# Altium schematic symbol library kmilo17pet-LT_OpAmp_LT1000.SchLib: 2280 symbols (part 70 of 79)
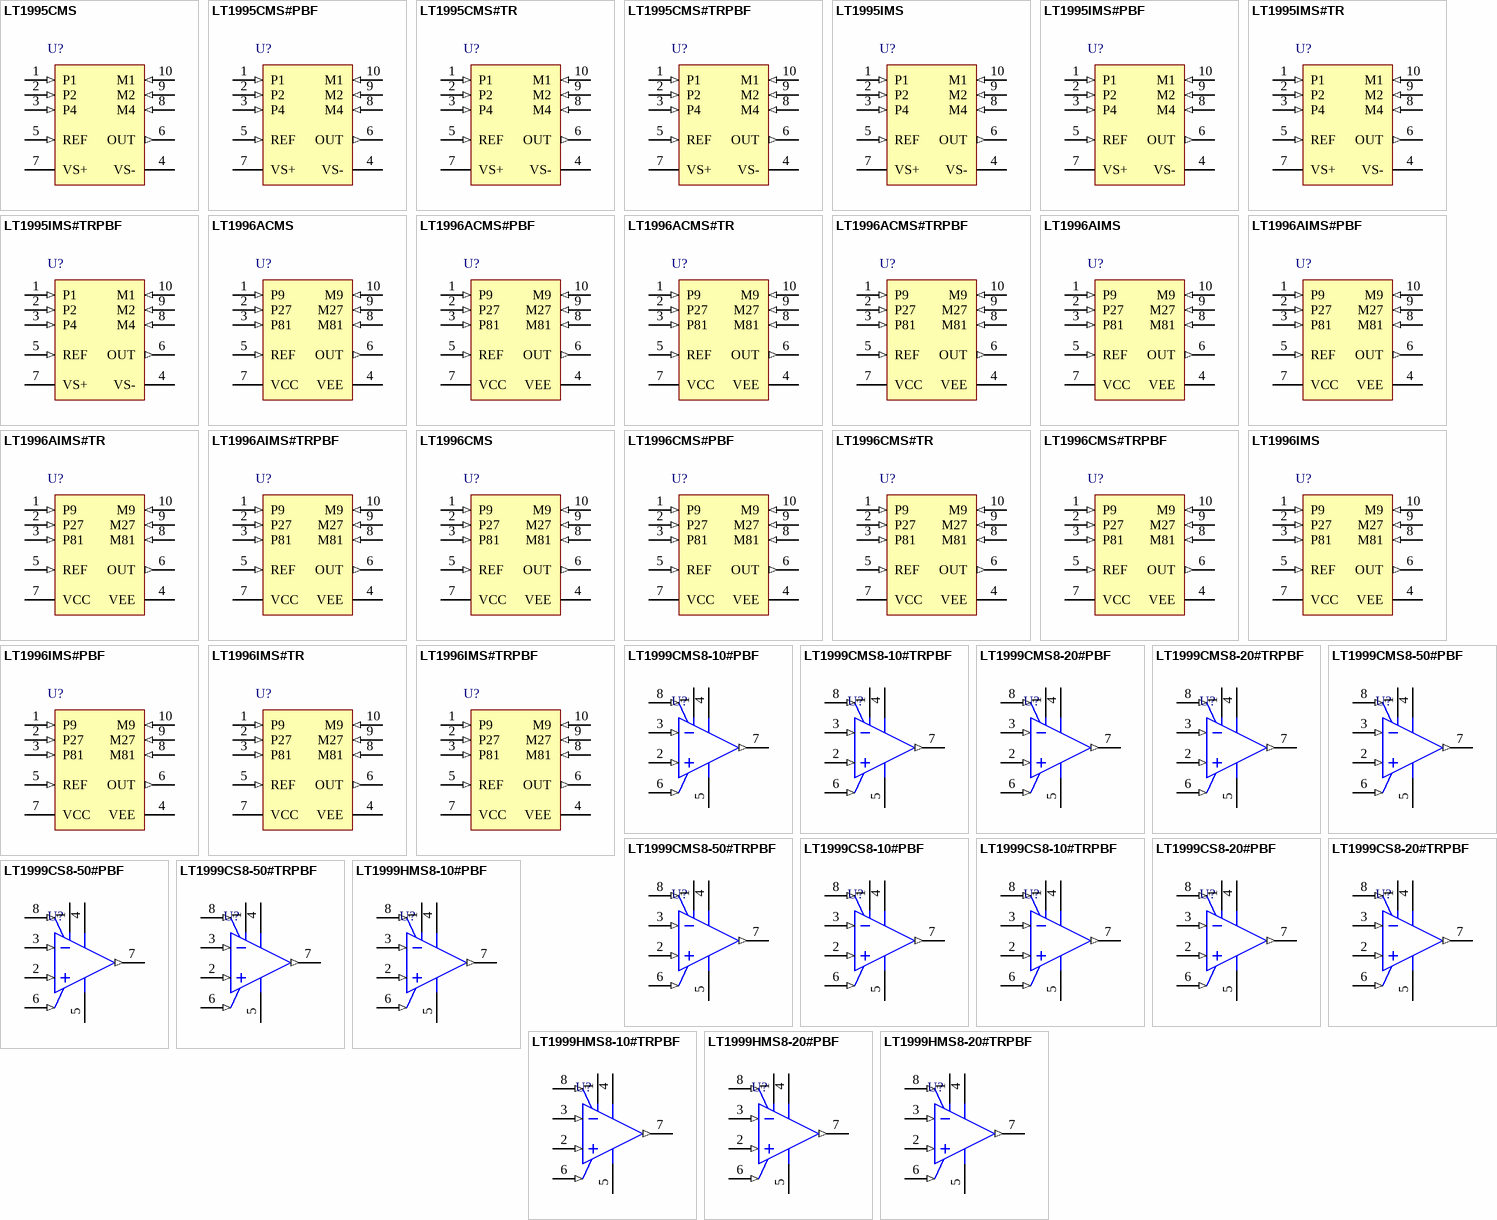
[diagram p174: symbols LT1995CMS to LT1999HMS8-20#TRPBF]

## LT1996IMS#PBF
designator U?
Single Channel, Precision, Gain Selectable Amplifier, Av = 9 to 117, 0.56 MHz Typical GBW, 0.12 V/us Typical SR, 2.7 to 36 V, 10-Pin SOP (MS-10), Industrial, Pb-Free; Linear Technology Part Number: LT1996; Manufacturer: Linear Technology; PartNumber: LT1996IMS#PBF; Channels (#): 1; GBW (MHz) Typical: 0.56; Is (mA) Typical: 0.1; SR (V/us) Typical: 0.12; Vos (mV) Guaranteed: 0.05; Vos (mV) Typical: 0.015; Vs Max (V): 36; Vs Min (V): 2.7; PackageVersion: Rev E; PackageReference: LT-MS-10; PackageDescription: 10-Lead Plastic MSOP, Body 3 x 3 mm, Pitch 0.5 mm; Supplier 1: Digi-Key; Supplier Part Number 1: LT1996IMS#PBF-ND; RoHS: Pb-Free; Type: SGA; Mounting Technology: Surface Mount; ComponentLink1Description: Manufacturer URL; ComponentLink1URL: http://www.linear.com/; ComponentLink2Description: Datasheet; ComponentLink2URL: http://cds.linear.com/docs/en/datasheet/1996f.pdf; ComponentLink3Description: Package Specification; ComponentLink3URL: http://cds.linear.com/docs/en/packaging/MSOP_10_05-08-1661.pdf
footprint LT-MS-10_N (SOP, 10-Leads, Body 3x3mm, Pitch 0.50mm, IPC Medium Density)
footprint LT-MS-10_L (SOP, 10-Leads, Body 3x3mm, Pitch 0.50mm, IPC High Density)
footprint LT-MS-10_M (SOP, 10-Leads, Body 3x3mm, Pitch 0.50mm, IPC Low Density)
pins: 1 P9 (in) "Noninverting Gain-of-9 input. Connects a 50k internal resistor to the op amp’s noninverting input.", 2 P27 (in) "Noninverting Gain-of-27 input. Connects a (50k/3) internal resistor to the op amp’s noninverting input.", 3 P81 (in) "Noninverting Gain-of-81 input. Connects a (50k/9) internal resistor to the op amp’s noninverting input.", 4 VEE (power) "Negative Power Supply. Can be either ground (in single supply applications), or a negative voltage (in split supply applications).", 5 REF (in) "Reference Input. Sets the output level when difference between inputs is zero. Connects a 450k internal resistor to the op amp’s noninverting input.", 6 OUT (out) "Output. VOUT = VREF + 9 * (VP1 - VM1) + 27 *(VP3 - VM3) + 81 * (VP9 - VM9).", 7 VCC (power) "Positive Power Supply. Can be anything from 2.7V to 36V above the VEE voltage.", 8 M81 (in) "Inverting Gain-of-81 input. Connects a (50k/9) internal resistor to the op amp’s inverting input.", 9 M27 (in) "Inverting Gain-of-27 input. Connects a (50k/3) internal resistor to the op amp’s inverting input.", 10 M9 (in) "Inverting Gain-of-9 input. Connects a 50k internal resistor to the op amp’s inverting input."

## LT1996IMS#TR
designator U?
Single Channel, Precision, Gain Selectable Amplifier, Av = 9 to 117, 0.56 MHz Typical GBW, 0.12 V/us Typical SR, 2.7 to 36 V, 10-Pin SOP (MS-10), Industrial, Reel; Linear Technology Part Number: LT1996; Manufacturer: Linear Technology; PartNumber: LT1996IMS#TR; Channels (#): 1; GBW (MHz) Typical: 0.56; Is (mA) Typical: 0.1; SR (V/us) Typical: 0.12; Vos (mV) Guaranteed: 0.05; Vos (mV) Typical: 0.015; Vs Max (V): 36; Vs Min (V): 2.7; PackageVersion: Rev E; PackageReference: LT-MS-10; PackageDescription: 10-Lead Plastic MSOP, Body 3 x 3 mm, Pitch 0.5 mm; Packing: Reel; Type: SGA; Mounting Technology: Surface Mount; ComponentLink1Description: Manufacturer URL; ComponentLink1URL: http://www.linear.com/; ComponentLink2Description: Datasheet; ComponentLink2URL: http://cds.linear.com/docs/en/datasheet/1996f.pdf; ComponentLink3Description: Package Specification; ComponentLink3URL: http://cds.linear.com/docs/en/packaging/MSOP_10_05-08-1661.pdf
footprint LT-MS-10_N (SOP, 10-Leads, Body 3x3mm, Pitch 0.50mm, IPC Medium Density)
footprint LT-MS-10_L (SOP, 10-Leads, Body 3x3mm, Pitch 0.50mm, IPC High Density)
footprint LT-MS-10_M (SOP, 10-Leads, Body 3x3mm, Pitch 0.50mm, IPC Low Density)
pins: 1 P9 (in) "Noninverting Gain-of-9 input. Connects a 50k internal resistor to the op amp’s noninverting input.", 2 P27 (in) "Noninverting Gain-of-27 input. Connects a (50k/3) internal resistor to the op amp’s noninverting input.", 3 P81 (in) "Noninverting Gain-of-81 input. Connects a (50k/9) internal resistor to the op amp’s noninverting input.", 4 VEE (power) "Negative Power Supply. Can be either ground (in single supply applications), or a negative voltage (in split supply applications).", 5 REF (in) "Reference Input. Sets the output level when difference between inputs is zero. Connects a 450k internal resistor to the op amp’s noninverting input.", 6 OUT (out) "Output. VOUT = VREF + 9 * (VP1 - VM1) + 27 *(VP3 - VM3) + 81 * (VP9 - VM9).", 7 VCC (power) "Positive Power Supply. Can be anything from 2.7V to 36V above the VEE voltage.", 8 M81 (in) "Inverting Gain-of-81 input. Connects a (50k/9) internal resistor to the op amp’s inverting input.", 9 M27 (in) "Inverting Gain-of-27 input. Connects a (50k/3) internal resistor to the op amp’s inverting input.", 10 M9 (in) "Inverting Gain-of-9 input. Connects a 50k internal resistor to the op amp’s inverting input."

## LT1996IMS#TRPBF
designator U?
Single Channel, Precision, Gain Selectable Amplifier, Av = 9 to 117, 0.56 MHz Typical GBW, 0.12 V/us Typical SR, 2.7 to 36 V, 10-Pin SOP (MS-10), Industrial, Pb-Free, Reel; Linear Technology Part Number: LT1996; Manufacturer: Linear Technology; PartNumber: LT1996IMS#TRPBF; Channels (#): 1; GBW (MHz) Typical: 0.56; Is (mA) Typical: 0.1; SR (V/us) Typical: 0.12; Vos (mV) Guaranteed: 0.05; Vos (mV) Typical: 0.015; Vs Max (V): 36; Vs Min (V): 2.7; PackageVersion: Rev E; PackageReference: LT-MS-10; PackageDescription: 10-Lead Plastic MSOP, Body 3 x 3 mm, Pitch 0.5 mm; Supplier 1: Digi-Key; Supplier Part Number 1: LT1996IMS#TRPBF-ND; Packing: Reel; RoHS: Pb-Free; Type: SGA; Mounting Technology: Surface Mount; ComponentLink1Description: Manufacturer URL; ComponentLink1URL: http://www.linear.com/; ComponentLink2Description: Datasheet; ComponentLink2URL: http://cds.linear.com/docs/en/datasheet/1996f.pdf; ComponentLink3Description: Package Specification; ComponentLink3URL: http://cds.linear.com/docs/en/packaging/MSOP_10_05-08-1661.pdf
footprint LT-MS-10_N (SOP, 10-Leads, Body 3x3mm, Pitch 0.50mm, IPC Medium Density)
footprint LT-MS-10_L (SOP, 10-Leads, Body 3x3mm, Pitch 0.50mm, IPC High Density)
footprint LT-MS-10_M (SOP, 10-Leads, Body 3x3mm, Pitch 0.50mm, IPC Low Density)
pins: 1 P9 (in) "Noninverting Gain-of-9 input. Connects a 50k internal resistor to the op amp’s noninverting input.", 2 P27 (in) "Noninverting Gain-of-27 input. Connects a (50k/3) internal resistor to the op amp’s noninverting input.", 3 P81 (in) "Noninverting Gain-of-81 input. Connects a (50k/9) internal resistor to the op amp’s noninverting input.", 4 VEE (power) "Negative Power Supply. Can be either ground (in single supply applications), or a negative voltage (in split supply applications).", 5 REF (in) "Reference Input. Sets the output level when difference between inputs is zero. Connects a 450k internal resistor to the op amp’s noninverting input.", 6 OUT (out) "Output. VOUT = VREF + 9 * (VP1 - VM1) + 27 *(VP3 - VM3) + 81 * (VP9 - VM9).", 7 VCC (power) "Positive Power Supply. Can be anything from 2.7V to 36V above the VEE voltage.", 8 M81 (in) "Inverting Gain-of-81 input. Connects a (50k/9) internal resistor to the op amp’s inverting input.", 9 M27 (in) "Inverting Gain-of-27 input. Connects a (50k/3) internal resistor to the op amp’s inverting input.", 10 M9 (in) "Inverting Gain-of-9 input. Connects a 50k internal resistor to the op amp’s inverting input."

## LT1999CMS8-10#PBF
designator U?
Single Channel, High Voltage, Bidirectional Current Sense Amplifier, 2 MHz Typical GBW, 3 V/us Typical SR, 4.5 to 5.5 V, 8-Pin SOP (MS8-8), Commercial, Pb-Free; Linear Technology Part Number: LT1999-10; Manufacturer: Linear Technology; PartNumber: LT1999CMS8-10#PBF; Channels (#): 1; GBW (MHz) Typical: 2; Is (mA) Typical: 1.55; SR (V/us) Typical: 3; Vos (mV) Typical: 0.5; Vs Max (V): 5.5; Vs Min (V): 4.5; DatasheetVersion: Rev. B; PackageVersion: Rev G; PackageReference: LT-MS8-8; PackageDescription: 8-Lead Plastic Small Outline, Body 3.9 x 4.9 mm, Pitch 1.27 mm; Supplier 1: Digi-Key; Supplier Part Number 1: LT1999CMS8-10#PBF-ND; RoHS: Pb-Free; Type: CSA; Mounting Technology: Surface Mount; ComponentLink1Description: Manufacturer URL; ComponentLink1URL: http://www.linear.com/; ComponentLink2Description: Datasheet; ComponentLink2URL: http://cds.linear.com/docs/en/datasheet/1999fb.pdf; ComponentLink3Description: Package Specification; ComponentLink3URL: http://cds.linear.com/docs/en/packaging/05081610_G_SO8.pdf
footprint LT-MS8-8_N (SOP, 8-Leads, Body 3x3mm, Pitch 0.65mm, IPC Medium Density)
footprint LT-MS8-8_L (SOP, 8-Leads, Body 3x3mm, Pitch 0.65mm, IPC High Density)
footprint LT-MS8-8_M (SOP, 8-Leads, Body 3x3mm, Pitch 0.65mm, IPC Low Density)
pins: 1 V+ (power) "Power Supply Voltage. Pins 1 and 4 are tied internally together. The specified range of operation is 4.5V to 5.5V, but lower supply voltages (down to approximately 4V) is possible although the LT1999 is not tested or (See Datasheet)", 2 +IN (in) "Positive Sense Input Pin.", 3 -IN (in) "Negative Sense Input Pin.", 4 V+ (power) "Power Supply Voltage. Pins 1 and 4 are tied internally together. The specified range of operation is 4.5V to 5.5V, but lower supply voltages (down to approximately 4V) is possible although the LT1999 is not tested or (See Datasheet)", 5 GND (power) "Ground Pin.", 6 REF (in) "Reference Pin Input. The REF pin sets the output common mode level and is set halfway between V+ and GND using a divider made of two 160k resistors. The default open circuit potential of the REF pin is mid-supply.It can be (See Datasheet)", 7 OUT (out) "Voltage Output. VOUT = AV•(VSENSE +/- VOSI),where AV is the gain, and VOSI is the input referred offset voltage. The output amplifier has a low impedance output and is designed to drive up to 200pF capacitive loads directly. (See Datasheet)", 8 ~{SHDN} (in) "Shutdown Pin. When pulled to within 0.5V of GND (Pin 5), will place the LT1999 into low power shutdown. If the pin is left floating, an internal 2uA pullup current source will place the LT1999 into the active (amplifying) (See Datasheet)"

## LT1999CMS8-10#TRPBF
designator U?
Single Channel, High Voltage, Bidirectional Current Sense Amplifier, 2 MHz Typical GBW, 3 V/us Typical SR, 4.5 to 5.5 V, 8-Pin SOP (MS8-8), Commercial, Pb-Free, Reel; Linear Technology Part Number: LT1999-10; Manufacturer: Linear Technology; PartNumber: LT1999CMS8-10#TRPBF; Channels (#): 1; GBW (MHz) Typical: 2; Is (mA) Typical: 1.55; SR (V/us) Typical: 3; Vos (mV) Typical: 0.5; Vs Max (V): 5.5; Vs Min (V): 4.5; DatasheetVersion: Rev. B; PackageVersion: Rev G; PackageReference: LT-MS8-8; PackageDescription: 8-Lead Plastic Small Outline, Body 3.9 x 4.9 mm, Pitch 1.27 mm; Supplier 1: Digi-Key; Supplier Part Number 1: LT1999CMS8-10#TRPBF-ND; Packing: Reel; RoHS: Pb-Free; Type: CSA; Mounting Technology: Surface Mount; ComponentLink1Description: Manufacturer URL; ComponentLink1URL: http://www.linear.com/; ComponentLink2Description: Datasheet; ComponentLink2URL: http://cds.linear.com/docs/en/datasheet/1999fb.pdf; ComponentLink3Description: Package Specification; ComponentLink3URL: http://cds.linear.com/docs/en/packaging/05081610_G_SO8.pdf
footprint LT-MS8-8_N (SOP, 8-Leads, Body 3x3mm, Pitch 0.65mm, IPC Medium Density)
footprint LT-MS8-8_L (SOP, 8-Leads, Body 3x3mm, Pitch 0.65mm, IPC High Density)
footprint LT-MS8-8_M (SOP, 8-Leads, Body 3x3mm, Pitch 0.65mm, IPC Low Density)
pins: 1 V+ (power) "Power Supply Voltage. Pins 1 and 4 are tied internally together. The specified range of operation is 4.5V to 5.5V, but lower supply voltages (down to approximately 4V) is possible although the LT1999 is not tested or (See Datasheet)", 2 +IN (in) "Positive Sense Input Pin.", 3 -IN (in) "Negative Sense Input Pin.", 4 V+ (power) "Power Supply Voltage. Pins 1 and 4 are tied internally together. The specified range of operation is 4.5V to 5.5V, but lower supply voltages (down to approximately 4V) is possible although the LT1999 is not tested or (See Datasheet)", 5 GND (power) "Ground Pin.", 6 REF (in) "Reference Pin Input. The REF pin sets the output common mode level and is set halfway between V+ and GND using a divider made of two 160k resistors. The default open circuit potential of the REF pin is mid-supply.It can be (See Datasheet)", 7 OUT (out) "Voltage Output. VOUT = AV•(VSENSE +/- VOSI),where AV is the gain, and VOSI is the input referred offset voltage. The output amplifier has a low impedance output and is designed to drive up to 200pF capacitive loads directly. (See Datasheet)", 8 ~{SHDN} (in) "Shutdown Pin. When pulled to within 0.5V of GND (Pin 5), will place the LT1999 into low power shutdown. If the pin is left floating, an internal 2uA pullup current source will place the LT1999 into the active (amplifying) (See Datasheet)"

## LT1999CMS8-20#PBF
designator U?
Single Channel, High Voltage, Bidirectional Current Sense Amplifier, 2 MHz Typical GBW, 3 V/us Typical SR, 4.5 to 5.5 V, 8-Pin SOP (MS8-8), Commercial, Pb-Free; Linear Technology Part Number: LT1999-20; Manufacturer: Linear Technology; PartNumber: LT1999CMS8-20#PBF; Channels (#): 1; GBW (MHz) Typical: 2; Is (mA) Typical: 1.55; SR (V/us) Typical: 3; Vos (mV) Typical: 0.5; Vs Max (V): 5.5; Vs Min (V): 4.5; DatasheetVersion: Rev. B; PackageVersion: Rev G; PackageReference: LT-MS8-8; PackageDescription: 8-Lead Plastic Small Outline, Body 3.9 x 4.9 mm, Pitch 1.27 mm; Supplier 1: Digi-Key; Supplier Part Number 1: LT1999CMS8-20#PBF-ND; RoHS: Pb-Free; Type: CSA; Mounting Technology: Surface Mount; ComponentLink1Description: Manufacturer URL; ComponentLink1URL: http://www.linear.com/; ComponentLink2Description: Datasheet; ComponentLink2URL: http://cds.linear.com/docs/en/datasheet/1999fb.pdf; ComponentLink3Description: Package Specification; ComponentLink3URL: http://cds.linear.com/docs/en/packaging/05081610_G_SO8.pdf
footprint LT-MS8-8_N (SOP, 8-Leads, Body 3x3mm, Pitch 0.65mm, IPC Medium Density)
footprint LT-MS8-8_L (SOP, 8-Leads, Body 3x3mm, Pitch 0.65mm, IPC High Density)
footprint LT-MS8-8_M (SOP, 8-Leads, Body 3x3mm, Pitch 0.65mm, IPC Low Density)
pins: 1 V+ (power) "Power Supply Voltage. Pins 1 and 4 are tied internally together. The specified range of operation is 4.5V to 5.5V, but lower supply voltages (down to approximately 4V) is possible although the LT1999 is not tested or (See Datasheet)", 2 +IN (in) "Positive Sense Input Pin.", 3 -IN (in) "Negative Sense Input Pin.", 4 V+ (power) "Power Supply Voltage. Pins 1 and 4 are tied internally together. The specified range of operation is 4.5V to 5.5V, but lower supply voltages (down to approximately 4V) is possible although the LT1999 is not tested or (See Datasheet)", 5 GND (power) "Ground Pin.", 6 REF (in) "Reference Pin Input. The REF pin sets the output common mode level and is set halfway between V+ and GND using a divider made of two 160k resistors. The default open circuit potential of the REF pin is mid-supply. It can be (See Datasheet)", 7 OUT (out) "Voltage Output. VOUT = AV•(VSENSE +/- VOSI), where AV is the gain, and VOSI is the input referred offset voltage. The output amplifier has a low impedance output and is designed to drive up to 200pF capacitive loads directly.(See Datasheet)", 8 ~{SHDN} (in) "Shutdown Pin. When pulled to within 0.5V of GND (Pin 5), will place the LT1999 into low power shutdown. If the pin is left floating, an internal 2uA pullup current source will place the LT1999 into the active (amplifying) (See Datasheet)"

## LT1999CMS8-20#TRPBF
designator U?
Single Channel, High Voltage, Bidirectional Current Sense Amplifier, 2 MHz Typical GBW, 3 V/us Typical SR, 4.5 to 5.5 V, 8-Pin SOP (MS8-8), Commercial, Pb-Free, Reel; Linear Technology Part Number: LT1999-20; Manufacturer: Linear Technology; PartNumber: LT1999CMS8-20#TRPBF; Channels (#): 1; GBW (MHz) Typical: 2; Is (mA) Typical: 1.55; SR (V/us) Typical: 3; Vos (mV) Typical: 0.5; Vs Max (V): 5.5; Vs Min (V): 4.5; DatasheetVersion: Rev. B; PackageVersion: Rev G; PackageReference: LT-MS8-8; PackageDescription: 8-Lead Plastic Small Outline, Body 3.9 x 4.9 mm, Pitch 1.27 mm; Supplier 1: Digi-Key; Supplier Part Number 1: LT1999CMS8-20#TRPBF-ND; Packing: Reel; RoHS: Pb-Free; Type: CSA; Mounting Technology: Surface Mount; ComponentLink1Description: Manufacturer URL; ComponentLink1URL: http://www.linear.com/; ComponentLink2Description: Datasheet; ComponentLink2URL: http://cds.linear.com/docs/en/datasheet/1999fb.pdf; ComponentLink3Description: Package Specification; ComponentLink3URL: http://cds.linear.com/docs/en/packaging/05081610_G_SO8.pdf
footprint LT-MS8-8_N (SOP, 8-Leads, Body 3x3mm, Pitch 0.65mm, IPC Medium Density)
footprint LT-MS8-8_L (SOP, 8-Leads, Body 3x3mm, Pitch 0.65mm, IPC High Density)
footprint LT-MS8-8_M (SOP, 8-Leads, Body 3x3mm, Pitch 0.65mm, IPC Low Density)
pins: 1 V+ (power) "Power Supply Voltage. Pins 1 and 4 are tied internally together. The specified range of operation is 4.5V to 5.5V, but lower supply voltages (down to approximately 4V) is possible although the LT1999 is not tested or (See Datasheet)", 2 +IN (in) "Positive Sense Input Pin.", 3 -IN (in) "Negative Sense Input Pin.", 4 V+ (power) "Power Supply Voltage. Pins 1 and 4 are tied internally together. The specified range of operation is 4.5V to 5.5V, but lower supply voltages (down to approximately 4V) is possible although the LT1999 is not tested or (See Datasheet)", 5 GND (power) "Ground Pin.", 6 REF (in) "Reference Pin Input. The REF pin sets the output common mode level and is set halfway between V+ and GND using a divider made of two 160k resistors. The default open circuit potential of the REF pin is mid-supply. It can be (See Datasheet)", 7 OUT (out) "Voltage Output. VOUT = AV•(VSENSE +/- VOSI), where AV is the gain, and VOSI is the input referred offset voltage. The output amplifier has a low impedance output and is designed to drive up to 200pF capacitive loads directly.(See Datasheet)", 8 ~{SHDN} (in) "Shutdown Pin. When pulled to within 0.5V of GND (Pin 5), will place the LT1999 into low power shutdown. If the pin is left floating, an internal 2uA pullup current source will place the LT1999 into the active (amplifying) (See Datasheet)"

## LT1999CMS8-50#PBF
designator U?
Single Channel, High Voltage, Bidirectional Current Sense Amplifier, 2 MHz Typical GBW, 3 V/us Typical SR, 4.5 to 5.5 V, 8-Pin SOP (MS8-8), Commercial, Pb-Free; Linear Technology Part Number: LT1999-50; Manufacturer: Linear Technology; PartNumber: LT1999CMS8-50#PBF; Channels (#): 1; GBW (MHz) Typical: 2; Is (mA) Typical: 1.55; SR (V/us) Typical: 3; Vos (mV) Typical: 0.5; Vs Max (V): 5.5; Vs Min (V): 4.5; DatasheetVersion: Rev. B; PackageVersion: Rev G; PackageReference: LT-MS8-8; PackageDescription: 8-Lead Plastic Small Outline, Body 3.9 x 4.9 mm, Pitch 1.27 mm; Supplier 1: Digi-Key; Supplier Part Number 1: LT1999CMS8-50#PBF-ND; Supplier 2: Farnell; Supplier Part Number 2: 1868094; RoHS: Pb-Free; Type: CSA; Mounting Technology: Surface Mount; ComponentLink1Description: Manufacturer URL; ComponentLink1URL: http://www.linear.com/; ComponentLink2Description: Datasheet; ComponentLink2URL: http://cds.linear.com/docs/en/datasheet/1999fb.pdf; ComponentLink3Description: Package Specification; ComponentLink3URL: http://cds.linear.com/docs/en/packaging/05081610_G_SO8.pdf
footprint LT-MS8-8_N (SOP, 8-Leads, Body 3x3mm, Pitch 0.65mm, IPC Medium Density)
footprint LT-MS8-8_L (SOP, 8-Leads, Body 3x3mm, Pitch 0.65mm, IPC High Density)
footprint LT-MS8-8_M (SOP, 8-Leads, Body 3x3mm, Pitch 0.65mm, IPC Low Density)
pins: 1 V+ (power) "Power Supply Voltage. Pins 1 and 4 are tied internally together. The specified range of operation is 4.5V to 5.5V, but lower supply voltages (down to approximately 4V) is possible although the LT1999 is not tested or (See Datasheet)", 2 +IN (in) "Positive Sense Input Pin.", 3 -IN (in) "Negative Sense Input Pin.", 4 V+ (power) "Power Supply Voltage. Pins 1 and 4 are tied internally together. The specified range of operation is 4.5V to 5.5V, but lower supply voltages (down to approximately 4V) is possible although the LT1999 is not tested or (See Datasheet)", 5 GND (power) "Ground Pin.", 6 REF (in) "Reference Pin Input. The REF pin sets the output common mode level and is set halfway between V+ and GND using a divider made of two 160k resistors. The default open circuit potential of the REF pin is mid-supply. It can be (See Datasheet)", 7 OUT (out) "Voltage Output. VOUT = AV•(VSENSE +/- VOSI), where AV is the gain, and VOSI is the input referred offset voltage. The output amplifier has a low impedance output and is designed to drive up to 200pF capacitive loads directly.(See Datasheet)", 8 ~{SHDN} (in) "Shutdown Pin. When pulled to within 0.5V of GND (Pin 5), will place the LT1999 into low power shutdown. If the pin is left floating, an internal 2uA pullup current source will place the LT1999 into the active (amplifying) (See Datasheet)"

## LT1999CMS8-50#TRPBF
designator U?
Single Channel, High Voltage, Bidirectional Current Sense Amplifier, 2 MHz Typical GBW, 3 V/us Typical SR, 4.5 to 5.5 V, 8-Pin SOP (MS8-8), Commercial, Pb-Free, Reel; Linear Technology Part Number: LT1999-50; Manufacturer: Linear Technology; PartNumber: LT1999CMS8-50#TRPBF; Channels (#): 1; GBW (MHz) Typical: 2; Is (mA) Typical: 1.55; SR (V/us) Typical: 3; Vos (mV) Typical: 0.5; Vs Max (V): 5.5; Vs Min (V): 4.5; DatasheetVersion: Rev. B; PackageVersion: Rev G; PackageReference: LT-MS8-8; PackageDescription: 8-Lead Plastic Small Outline, Body 3.9 x 4.9 mm, Pitch 1.27 mm; Supplier 1: Digi-Key; Supplier Part Number 1: LT1999CMS8-50#TRPBF-ND; Packing: Reel; RoHS: Pb-Free; Type: CSA; Mounting Technology: Surface Mount; ComponentLink1Description: Manufacturer URL; ComponentLink1URL: http://www.linear.com/; ComponentLink2Description: Datasheet; ComponentLink2URL: http://cds.linear.com/docs/en/datasheet/1999fb.pdf; ComponentLink3Description: Package Specification; ComponentLink3URL: http://cds.linear.com/docs/en/packaging/05081610_G_SO8.pdf
footprint LT-MS8-8_N (SOP, 8-Leads, Body 3x3mm, Pitch 0.65mm, IPC Medium Density)
footprint LT-MS8-8_L (SOP, 8-Leads, Body 3x3mm, Pitch 0.65mm, IPC High Density)
footprint LT-MS8-8_M (SOP, 8-Leads, Body 3x3mm, Pitch 0.65mm, IPC Low Density)
pins: 1 V+ (power) "Power Supply Voltage. Pins 1 and 4 are tied internally together. The specified range of operation is 4.5V to 5.5V, but lower supply voltages (down to approximately 4V) is possible although the LT1999 is not tested or (See Datasheet)", 2 +IN (in) "Positive Sense Input Pin.", 3 -IN (in) "Negative Sense Input Pin.", 4 V+ (power) "Power Supply Voltage. Pins 1 and 4 are tied internally together. The specified range of operation is 4.5V to 5.5V, but lower supply voltages (down to approximately 4V) is possible although the LT1999 is not tested or (See Datasheet)", 5 GND (power) "Ground Pin.", 6 REF (in) "Reference Pin Input. The REF pin sets the output common mode level and is set halfway between V+ and GND using a divider made of two 160k resistors. The default open circuit potential of the REF pin is mid-supply. It can be (See Datasheet)", 7 OUT (out) "Voltage Output. VOUT = AV•(VSENSE +/- VOSI), where AV is the gain, and VOSI is the input referred offset voltage. The output amplifier has a low impedance output and is designed to drive up to 200pF capacitive loads directly.(See Datasheet)", 8 ~{SHDN} (in) "Shutdown Pin. When pulled to within 0.5V of GND (Pin 5), will place the LT1999 into low power shutdown. If the pin is left floating, an internal 2uA pullup current source will place the LT1999 into the active (amplifying) (See Datasheet)"

## LT1999CS8-10#PBF
designator U?
Single Channel, High Voltage, Bidirectional Current Sense Amplifier, 2 MHz Typical GBW, 3 V/us Typical SR, 4.5 to 5.5 V, 8-Pin SOIC (S8-8), Commercial, Pb-Free; Linear Technology Part Number: LT1999-10; Manufacturer: Linear Technology; PartNumber: LT1999CS8-10#PBF; Channels (#): 1; GBW (MHz) Typical: 2; Is (mA) Typical: 1.55; SR (V/us) Typical: 3; Vos (mV) Typical: 0.5; Vs Max (V): 5.5; Vs Min (V): 4.5; DatasheetVersion: Rev. B; PackageVersion: Rev G; PackageReference: LT-S8-8; PackageDescription: 8-Pin Plastic Small Outline, Body 4.9 x 3.9 mm, Pitch 1.27 mm; Supplier 1: Digi-Key; Supplier Part Number 1: LT1999CS8-10#PBF-ND; Supplier 2: Farnell; Supplier Part Number 2: 1868095; RoHS: Pb-Free; Type: CSA; Mounting Technology: Surface Mount; ComponentLink1Description: Manufacturer URL; ComponentLink1URL: http://www.linear.com/; ComponentLink2Description: Datasheet; ComponentLink2URL: http://cds.linear.com/docs/en/datasheet/1999fb.pdf; ComponentLink3Description: Package Specification; ComponentLink3URL: http://cds.linear.com/docs/en/packaging/05081610_G_SO8.pdf
footprint LT-S8-8_N (SOIC, 8-Leads, Body 4.9x3.9mm, Pitch 1.27mm, IPC Medium Density)
footprint LT-S8-8_L (SOIC, 8-Leads, Body 4.9x3.9mm, Pitch 1.27mm, IPC High Density)
footprint LT-S8-8_M (SOIC, 8-Leads, Body 4.9x3.9mm, Pitch 1.27mm, IPC Low Density)
pins: 1 V+ (power) "Power Supply Voltage. Pins 1 and 4 are tied internally together. The specified range of operation is 4.5V to 5.5V, but lower supply voltages (down to approximately 4V) is possible although the LT1999 is not tested or (See Datasheet)", 2 +IN (in) "Positive Sense Input Pin.", 3 -IN (in) "Negative Sense Input Pin.", 4 V+ (power) "Power Supply Voltage. Pins 1 and 4 are tied internally together. The specified range of operation is 4.5V to 5.5V, but lower supply voltages (down to approximately 4V) is possible although the LT1999 is not tested or (See Datasheet)", 5 GND (power) "Ground Pin.", 6 REF (in) "Reference Pin Input. The REF pin sets the output common mode level and is set halfway between V+ and GND using a divider made of two 160k resistors. The default open circuit potential of the REF pin is mid-supply.It can be (See Datasheet)", 7 OUT (out) "Voltage Output. VOUT = AV•(VSENSE +/- VOSI),where AV is the gain, and VOSI is the input referred offset voltage. The output amplifier has a low impedance output and is designed to drive up to 200pF capacitive loads directly. (See Datasheet)", 8 ~{SHDN} (in) "Shutdown Pin. When pulled to within 0.5V of GND (Pin 5), will place the LT1999 into low power shutdown. If the pin is left floating, an internal 2uA pullup current source will place the LT1999 into the active (amplifying) (See Datasheet)"

## LT1999CS8-10#TRPBF
designator U?
Single Channel, High Voltage, Bidirectional Current Sense Amplifier, 2 MHz Typical GBW, 3 V/us Typical SR, 4.5 to 5.5 V, 8-Pin SOIC (S8-8), Commercial, Pb-Free, Reel; Linear Technology Part Number: LT1999-10; Manufacturer: Linear Technology; PartNumber: LT1999CS8-10#TRPBF; Channels (#): 1; GBW (MHz) Typical: 2; Is (mA) Typical: 1.55; SR (V/us) Typical: 3; Vos (mV) Typical: 0.5; Vs Max (V): 5.5; Vs Min (V): 4.5; DatasheetVersion: Rev. B; PackageVersion: Rev G; PackageReference: LT-S8-8; PackageDescription: 8-Pin Plastic Small Outline, Body 4.9 x 3.9 mm, Pitch 1.27 mm; Supplier 1: Digi-Key; Supplier Part Number 1: LT1999CS8-10#TRPBF-ND; Packing: Reel; RoHS: Pb-Free; Type: CSA; Mounting Technology: Surface Mount; ComponentLink1Description: Manufacturer URL; ComponentLink1URL: http://www.linear.com/; ComponentLink2Description: Datasheet; ComponentLink2URL: http://cds.linear.com/docs/en/datasheet/1999fb.pdf; ComponentLink3Description: Package Specification; ComponentLink3URL: http://cds.linear.com/docs/en/packaging/05081610_G_SO8.pdf
footprint LT-S8-8_N (SOIC, 8-Leads, Body 4.9x3.9mm, Pitch 1.27mm, IPC Medium Density)
footprint LT-S8-8_L (SOIC, 8-Leads, Body 4.9x3.9mm, Pitch 1.27mm, IPC High Density)
footprint LT-S8-8_M (SOIC, 8-Leads, Body 4.9x3.9mm, Pitch 1.27mm, IPC Low Density)
pins: 1 V+ (power) "Power Supply Voltage. Pins 1 and 4 are tied internally together. The specified range of operation is 4.5V to 5.5V, but lower supply voltages (down to approximately 4V) is possible although the LT1999 is not tested or (See Datasheet)", 2 +IN (in) "Positive Sense Input Pin.", 3 -IN (in) "Negative Sense Input Pin.", 4 V+ (power) "Power Supply Voltage. Pins 1 and 4 are tied internally together. The specified range of operation is 4.5V to 5.5V, but lower supply voltages (down to approximately 4V) is possible although the LT1999 is not tested or (See Datasheet)", 5 GND (power) "Ground Pin.", 6 REF (in) "Reference Pin Input. The REF pin sets the output common mode level and is set halfway between V+ and GND using a divider made of two 160k resistors. The default open circuit potential of the REF pin is mid-supply.It can be (See Datasheet)", 7 OUT (out) "Voltage Output. VOUT = AV•(VSENSE +/- VOSI),where AV is the gain, and VOSI is the input referred offset voltage. The output amplifier has a low impedance output and is designed to drive up to 200pF capacitive loads directly. (See Datasheet)", 8 ~{SHDN} (in) "Shutdown Pin. When pulled to within 0.5V of GND (Pin 5), will place the LT1999 into low power shutdown. If the pin is left floating, an internal 2uA pullup current source will place the LT1999 into the active (amplifying) (See Datasheet)"

## LT1999CS8-20#PBF
designator U?
Single Channel, High Voltage, Bidirectional Current Sense Amplifier, 2 MHz Typical GBW, 3 V/us Typical SR, 4.5 to 5.5 V, 8-Pin SOIC (S8-8), Commercial, Pb-Free; Linear Technology Part Number: LT1999-20; Manufacturer: Linear Technology; PartNumber: LT1999CS8-20#PBF; Channels (#): 1; GBW (MHz) Typical: 2; Is (mA) Typical: 1.55; SR (V/us) Typical: 3; Vos (mV) Typical: 0.5; Vs Max (V): 5.5; Vs Min (V): 4.5; DatasheetVersion: Rev. B; PackageVersion: Rev G; PackageReference: LT-S8-8; PackageDescription: 8-Pin Plastic Small Outline, Body 4.9 x 3.9 mm, Pitch 1.27 mm; Supplier 1: Digi-Key; Supplier Part Number 1: LT1999CS8-20#PBF-ND; Supplier 2: Farnell; Supplier Part Number 2: 1868096; RoHS: Pb-Free; Type: CSA; Mounting Technology: Surface Mount; ComponentLink1Description: Manufacturer URL; ComponentLink1URL: http://www.linear.com/; ComponentLink2Description: Datasheet; ComponentLink2URL: http://cds.linear.com/docs/en/datasheet/1999fb.pdf; ComponentLink3Description: Package Specification; ComponentLink3URL: http://cds.linear.com/docs/en/packaging/05081610_G_SO8.pdf
footprint LT-S8-8_N (SOIC, 8-Leads, Body 4.9x3.9mm, Pitch 1.27mm, IPC Medium Density)
footprint LT-S8-8_L (SOIC, 8-Leads, Body 4.9x3.9mm, Pitch 1.27mm, IPC High Density)
footprint LT-S8-8_M (SOIC, 8-Leads, Body 4.9x3.9mm, Pitch 1.27mm, IPC Low Density)
pins: 1 V+ (power) "Power Supply Voltage. Pins 1 and 4 are tied internally together. The specified range of operation is 4.5V to 5.5V, but lower supply voltages (down to approximately 4V) is possible although the LT1999 is not tested or (See Datasheet)", 2 +IN (in) "Positive Sense Input Pin.", 3 -IN (in) "Negative Sense Input Pin.", 4 V+ (power) "Power Supply Voltage. Pins 1 and 4 are tied internally together. The specified range of operation is 4.5V to 5.5V, but lower supply voltages (down to approximately 4V) is possible although the LT1999 is not tested or (See Datasheet)", 5 GND (power) "Ground Pin.", 6 REF (in) "Reference Pin Input. The REF pin sets the output common mode level and is set halfway between V+ and GND using a divider made of two 160k resistors. The default open circuit potential of the REF pin is mid-supply.It can be (See Datasheet)", 7 OUT (out) "Voltage Output. VOUT = AV•(VSENSE +/- VOSI),where AV is the gain, and VOSI is the input referred offset voltage. The output amplifier has a low impedance output and is designed to drive up to 200pF capacitive loads directly. (See Datasheet)", 8 ~{SHDN} (in) "Shutdown Pin. When pulled to within 0.5V of GND (Pin 5), will place the LT1999 into low power shutdown. If the pin is left floating, an internal 2uA pullup current source will place the LT1999 into the active (amplifying) (See Datasheet)"

## LT1999CS8-20#TRPBF
designator U?
Single Channel, High Voltage, Bidirectional Current Sense Amplifier, 2 MHz Typical GBW, 3 V/us Typical SR, 4.5 to 5.5 V, 8-Pin SOIC (S8-8), Commercial, Pb-Free, Reel; Linear Technology Part Number: LT1999-20; Manufacturer: Linear Technology; PartNumber: LT1999CS8-20#TRPBF; Channels (#): 1; GBW (MHz) Typical: 2; Is (mA) Typical: 1.55; SR (V/us) Typical: 3; Vos (mV) Typical: 0.5; Vs Max (V): 5.5; Vs Min (V): 4.5; DatasheetVersion: Rev. B; PackageVersion: Rev G; PackageReference: LT-S8-8; PackageDescription: 8-Pin Plastic Small Outline, Body 4.9 x 3.9 mm, Pitch 1.27 mm; Supplier 1: Digi-Key; Supplier Part Number 1: LT1999CS8-20#TRPBF-ND; Packing: Reel; RoHS: Pb-Free; Type: CSA; Mounting Technology: Surface Mount; ComponentLink1Description: Manufacturer URL; ComponentLink1URL: http://www.linear.com/; ComponentLink2Description: Datasheet; ComponentLink2URL: http://cds.linear.com/docs/en/datasheet/1999fb.pdf; ComponentLink3Description: Package Specification; ComponentLink3URL: http://cds.linear.com/docs/en/packaging/05081610_G_SO8.pdf
footprint LT-S8-8_N (SOIC, 8-Leads, Body 4.9x3.9mm, Pitch 1.27mm, IPC Medium Density)
footprint LT-S8-8_L (SOIC, 8-Leads, Body 4.9x3.9mm, Pitch 1.27mm, IPC High Density)
footprint LT-S8-8_M (SOIC, 8-Leads, Body 4.9x3.9mm, Pitch 1.27mm, IPC Low Density)
pins: 1 V+ (power) "Power Supply Voltage. Pins 1 and 4 are tied internally together. The specified range of operation is 4.5V to 5.5V, but lower supply voltages (down to approximately 4V) is possible although the LT1999 is not tested or (See Datasheet)", 2 +IN (in) "Positive Sense Input Pin.", 3 -IN (in) "Negative Sense Input Pin.", 4 V+ (power) "Power Supply Voltage. Pins 1 and 4 are tied internally together. The specified range of operation is 4.5V to 5.5V, but lower supply voltages (down to approximately 4V) is possible although the LT1999 is not tested or (See Datasheet)", 5 GND (power) "Ground Pin.", 6 REF (in) "Reference Pin Input. The REF pin sets the output common mode level and is set halfway between V+ and GND using a divider made of two 160k resistors. The default open circuit potential of the REF pin is mid-supply.It can be (See Datasheet)", 7 OUT (out) "Voltage Output. VOUT = AV•(VSENSE +/- VOSI),where AV is the gain, and VOSI is the input referred offset voltage. The output amplifier has a low impedance output and is designed to drive up to 200pF capacitive loads directly. (See Datasheet)", 8 ~{SHDN} (in) "Shutdown Pin. When pulled to within 0.5V of GND (Pin 5), will place the LT1999 into low power shutdown. If the pin is left floating, an internal 2uA pullup current source will place the LT1999 into the active (amplifying) (See Datasheet)"

## LT1999CS8-50#PBF
designator U?
Single Channel, High Voltage, Bidirectional Current Sense Amplifier, 2 MHz Typical GBW, 3 V/us Typical SR, 4.5 to 5.5 V, 8-Pin SOIC (S8-8), Commercial, Pb-Free; Linear Technology Part Number: LT1999-50; Manufacturer: Linear Technology; PartNumber: LT1999CS8-50#PBF; Channels (#): 1; GBW (MHz) Typical: 2; Is (mA) Typical: 1.55; SR (V/us) Typical: 3; Vos (mV) Typical: 0.5; Vs Max (V): 5.5; Vs Min (V): 4.5; DatasheetVersion: Rev. B; PackageVersion: Rev G; PackageReference: LT-S8-8; PackageDescription: 8-Pin Plastic Small Outline, Body 4.9 x 3.9 mm, Pitch 1.27 mm; Supplier 1: Digi-Key; Supplier Part Number 1: LT1999CS8-50#PBF-ND; Supplier 2: Farnell; Supplier Part Number 2: 1868097; RoHS: Pb-Free; Type: CSA; Mounting Technology: Surface Mount; ComponentLink1Description: Manufacturer URL; ComponentLink1URL: http://www.linear.com/; ComponentLink2Description: Datasheet; ComponentLink2URL: http://cds.linear.com/docs/en/datasheet/1999fb.pdf; ComponentLink3Description: Package Specification; ComponentLink3URL: http://cds.linear.com/docs/en/packaging/05081610_G_SO8.pdf
footprint LT-S8-8_N (SOIC, 8-Leads, Body 4.9x3.9mm, Pitch 1.27mm, IPC Medium Density)
footprint LT-S8-8_L (SOIC, 8-Leads, Body 4.9x3.9mm, Pitch 1.27mm, IPC High Density)
footprint LT-S8-8_M (SOIC, 8-Leads, Body 4.9x3.9mm, Pitch 1.27mm, IPC Low Density)
pins: 1 V+ (power) "Power Supply Voltage. Pins 1 and 4 are tied internally together. The specified range of operation is 4.5V to 5.5V, but lower supply voltages (down to approximately 4V) is possible although the LT1999 is not tested or (See Datasheet)", 2 +IN (in) "Positive Sense Input Pin.", 3 -IN (in) "Negative Sense Input Pin.", 4 V+ (power) "Power Supply Voltage. Pins 1 and 4 are tied internally together. The specified range of operation is 4.5V to 5.5V, but lower supply voltages (down to approximately 4V) is possible although the LT1999 is not tested or (See Datasheet)", 5 GND (power) "Ground Pin.", 6 REF (in) "Reference Pin Input. The REF pin sets the output common mode level and is set halfway between V+ and GND using a divider made of two 160k resistors. The default open circuit potential of the REF pin is mid-supply.It can be (See Datasheet)", 7 OUT (out) "Voltage Output. VOUT = AV•(VSENSE +/- VOSI),where AV is the gain, and VOSI is the input referred offset voltage. The output amplifier has a low impedance output and is designed to drive up to 200pF capacitive loads directly. (See Datasheet)", 8 ~{SHDN} (in) "Shutdown Pin. When pulled to within 0.5V of GND (Pin 5), will place the LT1999 into low power shutdown. If the pin is left floating, an internal 2uA pullup current source will place the LT1999 into the active (amplifying) (See Datasheet)"

## LT1999CS8-50#TRPBF
designator U?
Single Channel, High Voltage, Bidirectional Current Sense Amplifier, 2 MHz Typical GBW, 3 V/us Typical SR, 4.5 to 5.5 V, 8-Pin SOIC (S8-8), Commercial, Pb-Free, Reel; Linear Technology Part Number: LT1999-50; Manufacturer: Linear Technology; PartNumber: LT1999CS8-50#TRPBF; Channels (#): 1; GBW (MHz) Typical: 2; Is (mA) Typical: 1.55; SR (V/us) Typical: 3; Vos (mV) Typical: 0.5; Vs Max (V): 5.5; Vs Min (V): 4.5; DatasheetVersion: Rev. B; PackageVersion: Rev G; PackageReference: LT-S8-8; PackageDescription: 8-Pin Plastic Small Outline, Body 4.9 x 3.9 mm, Pitch 1.27 mm; Supplier 1: Digi-Key; Supplier Part Number 1: LT1999CS8-50#TRPBF-ND; Packing: Reel; RoHS: Pb-Free; Type: CSA; Mounting Technology: Surface Mount; ComponentLink1Description: Manufacturer URL; ComponentLink1URL: http://www.linear.com/; ComponentLink2Description: Datasheet; ComponentLink2URL: http://cds.linear.com/docs/en/datasheet/1999fb.pdf; ComponentLink3Description: Package Specification; ComponentLink3URL: http://cds.linear.com/docs/en/packaging/05081610_G_SO8.pdf
footprint LT-S8-8_N (SOIC, 8-Leads, Body 4.9x3.9mm, Pitch 1.27mm, IPC Medium Density)
footprint LT-S8-8_L (SOIC, 8-Leads, Body 4.9x3.9mm, Pitch 1.27mm, IPC High Density)
footprint LT-S8-8_M (SOIC, 8-Leads, Body 4.9x3.9mm, Pitch 1.27mm, IPC Low Density)
pins: 1 V+ (power) "Power Supply Voltage. Pins 1 and 4 are tied internally together. The specified range of operation is 4.5V to 5.5V, but lower supply voltages (down to approximately 4V) is possible although the LT1999 is not tested or (See Datasheet)", 2 +IN (in) "Positive Sense Input Pin.", 3 -IN (in) "Negative Sense Input Pin.", 4 V+ (power) "Power Supply Voltage. Pins 1 and 4 are tied internally together. The specified range of operation is 4.5V to 5.5V, but lower supply voltages (down to approximately 4V) is possible although the LT1999 is not tested or (See Datasheet)", 5 GND (power) "Ground Pin.", 6 REF (in) "Reference Pin Input. The REF pin sets the output common mode level and is set halfway between V+ and GND using a divider made of two 160k resistors. The default open circuit potential of the REF pin is mid-supply.It can be (See Datasheet)", 7 OUT (out) "Voltage Output. VOUT = AV•(VSENSE +/- VOSI),where AV is the gain, and VOSI is the input referred offset voltage. The output amplifier has a low impedance output and is designed to drive up to 200pF capacitive loads directly. (See Datasheet)", 8 ~{SHDN} (in) "Shutdown Pin. When pulled to within 0.5V of GND (Pin 5), will place the LT1999 into low power shutdown. If the pin is left floating, an internal 2uA pullup current source will place the LT1999 into the active (amplifying) (See Datasheet)"

## LT1999HMS8-10#PBF
designator U?
Single Channel, High Voltage, Bidirectional Current Sense Amplifier, 2 MHz Typical GBW, 3 V/us Typical SR, 4.5 to 5.5 V, 8-Pin SOP (MS8-8), High Temperature / Automotive, Pb-Free; Linear Technology Part Number: LT1999-10; Manufacturer: Linear Technology; PartNumber: LT1999HMS8-10#PBF; Channels (#): 1; GBW (MHz) Typical: 2; Is (mA) Typical: 1.55; SR (V/us) Typical: 3; Vos (mV) Typical: 0.5; Vs Max (V): 5.5; Vs Min (V): 4.5; DatasheetVersion: Rev. B; PackageVersion: Rev G; PackageReference: LT-MS8-8; PackageDescription: 8-Lead Plastic Small Outline, Body 3.9 x 4.9 mm, Pitch 1.27 mm; Supplier 1: Digi-Key; Supplier Part Number 1: LT1999HMS8-10#PBF-ND; RoHS: Pb-Free; Type: CSA; Mounting Technology: Surface Mount; ComponentLink1Description: Manufacturer URL; ComponentLink1URL: http://www.linear.com/; ComponentLink2Description: Datasheet; ComponentLink2URL: http://cds.linear.com/docs/en/datasheet/1999fb.pdf; ComponentLink3Description: Package Specification; ComponentLink3URL: http://cds.linear.com/docs/en/packaging/05081610_G_SO8.pdf
footprint LT-MS8-8_N (SOP, 8-Leads, Body 3x3mm, Pitch 0.65mm, IPC Medium Density)
footprint LT-MS8-8_L (SOP, 8-Leads, Body 3x3mm, Pitch 0.65mm, IPC High Density)
footprint LT-MS8-8_M (SOP, 8-Leads, Body 3x3mm, Pitch 0.65mm, IPC Low Density)
pins: 1 V+ (power) "Power Supply Voltage. Pins 1 and 4 are tied internally together. The specified range of operation is 4.5V to 5.5V, but lower supply voltages (down to approximately 4V) is possible although the LT1999 is not tested or (See Datasheet)", 2 +IN (in) "Positive Sense Input Pin.", 3 -IN (in) "Negative Sense Input Pin.", 4 V+ (power) "Power Supply Voltage. Pins 1 and 4 are tied internally together. The specified range of operation is 4.5V to 5.5V, but lower supply voltages (down to approximately 4V) is possible although the LT1999 is not tested or (See Datasheet)", 5 GND (power) "Ground Pin.", 6 REF (in) "Reference Pin Input. The REF pin sets the output common mode level and is set halfway between V+ and GND using a divider made of two 160k resistors. The default open circuit potential of the REF pin is mid-supply.It can be (See Datasheet)", 7 OUT (out) "Voltage Output. VOUT = AV•(VSENSE +/- VOSI),where AV is the gain, and VOSI is the input referred offset voltage. The output amplifier has a low impedance output and is designed to drive up to 200pF capacitive loads directly. (See Datasheet)", 8 ~{SHDN} (in) "Shutdown Pin. When pulled to within 0.5V of GND (Pin 5), will place the LT1999 into low power shutdown. If the pin is left floating, an internal 2uA pullup current source will place the LT1999 into the active (amplifying) (See Datasheet)"

## LT1999HMS8-10#TRPBF
designator U?
Single Channel, High Voltage, Bidirectional Current Sense Amplifier, 2 MHz Typical GBW, 3 V/us Typical SR, 4.5 to 5.5 V, 8-Pin SOP (MS8-8), High Temperature / Automotive, Pb-Free, Reel; Linear Technology Part Number: LT1999-10; Manufacturer: Linear Technology; PartNumber: LT1999HMS8-10#TRPBF; Channels (#): 1; GBW (MHz) Typical: 2; Is (mA) Typical: 1.55; SR (V/us) Typical: 3; Vos (mV) Typical: 0.5; Vs Max (V): 5.5; Vs Min (V): 4.5; DatasheetVersion: Rev. B; PackageVersion: Rev G; PackageReference: LT-MS8-8; PackageDescription: 8-Lead Plastic Small Outline, Body 3.9 x 4.9 mm, Pitch 1.27 mm; Supplier 1: Digi-Key; Supplier Part Number 1: LT1999HMS8-10#TRPBF-ND; Packing: Reel; RoHS: Pb-Free; Type: CSA; Mounting Technology: Surface Mount; ComponentLink1Description: Manufacturer URL; ComponentLink1URL: http://www.linear.com/; ComponentLink2Description: Datasheet; ComponentLink2URL: http://cds.linear.com/docs/en/datasheet/1999fb.pdf; ComponentLink3Description: Package Specification; ComponentLink3URL: http://cds.linear.com/docs/en/packaging/05081610_G_SO8.pdf
footprint LT-MS8-8_N (SOP, 8-Leads, Body 3x3mm, Pitch 0.65mm, IPC Medium Density)
footprint LT-MS8-8_L (SOP, 8-Leads, Body 3x3mm, Pitch 0.65mm, IPC High Density)
footprint LT-MS8-8_M (SOP, 8-Leads, Body 3x3mm, Pitch 0.65mm, IPC Low Density)
pins: 1 V+ (power) "Power Supply Voltage. Pins 1 and 4 are tied internally together. The specified range of operation is 4.5V to 5.5V, but lower supply voltages (down to approximately 4V) is possible although the LT1999 is not tested or (See Datasheet)", 2 +IN (in) "Positive Sense Input Pin.", 3 -IN (in) "Negative Sense Input Pin.", 4 V+ (power) "Power Supply Voltage. Pins 1 and 4 are tied internally together. The specified range of operation is 4.5V to 5.5V, but lower supply voltages (down to approximately 4V) is possible although the LT1999 is not tested or (See Datasheet)", 5 GND (power) "Ground Pin.", 6 REF (in) "Reference Pin Input. The REF pin sets the output common mode level and is set halfway between V+ and GND using a divider made of two 160k resistors. The default open circuit potential of the REF pin is mid-supply.It can be (See Datasheet)", 7 OUT (out) "Voltage Output. VOUT = AV•(VSENSE +/- VOSI),where AV is the gain, and VOSI is the input referred offset voltage. The output amplifier has a low impedance output and is designed to drive up to 200pF capacitive loads directly. (See Datasheet)", 8 ~{SHDN} (in) "Shutdown Pin. When pulled to within 0.5V of GND (Pin 5), will place the LT1999 into low power shutdown. If the pin is left floating, an internal 2uA pullup current source will place the LT1999 into the active (amplifying) (See Datasheet)"

## LT1999HMS8-20#PBF
designator U?
Single Channel, High Voltage, Bidirectional Current Sense Amplifier, 2 MHz Typical GBW, 3 V/us Typical SR, 4.5 to 5.5 V, 8-Pin SOP (MS8-8), High Temperature / Automotive, Pb-Free; Linear Technology Part Number: LT1999-20; Manufacturer: Linear Technology; PartNumber: LT1999HMS8-20#PBF; Channels (#): 1; GBW (MHz) Typical: 2; Is (mA) Typical: 1.55; SR (V/us) Typical: 3; Vos (mV) Typical: 0.5; Vs Max (V): 5.5; Vs Min (V): 4.5; DatasheetVersion: Rev. B; PackageVersion: Rev G; PackageReference: LT-MS8-8; PackageDescription: 8-Lead Plastic Small Outline, Body 3.9 x 4.9 mm, Pitch 1.27 mm; Supplier 1: Digi-Key; Supplier Part Number 1: LT1999HMS8-20#PBF-ND; Supplier 2: Farnell; Supplier Part Number 2: 1868098; RoHS: Pb-Free; Type: CSA; Mounting Technology: Surface Mount; ComponentLink1Description: Manufacturer URL; ComponentLink1URL: http://www.linear.com/; ComponentLink2Description: Datasheet; ComponentLink2URL: http://cds.linear.com/docs/en/datasheet/1999fb.pdf; ComponentLink3Description: Package Specification; ComponentLink3URL: http://cds.linear.com/docs/en/packaging/05081610_G_SO8.pdf
footprint LT-MS8-8_N (SOP, 8-Leads, Body 3x3mm, Pitch 0.65mm, IPC Medium Density)
footprint LT-MS8-8_L (SOP, 8-Leads, Body 3x3mm, Pitch 0.65mm, IPC High Density)
footprint LT-MS8-8_M (SOP, 8-Leads, Body 3x3mm, Pitch 0.65mm, IPC Low Density)
pins: 1 V+ (power) "Power Supply Voltage. Pins 1 and 4 are tied internally together. The specified range of operation is 4.5V to 5.5V, but lower supply voltages (down to approximately 4V) is possible although the LT1999 is not tested or (See Datasheet)", 2 +IN (in) "Positive Sense Input Pin.", 3 -IN (in) "Negative Sense Input Pin.", 4 V+ (power) "Power Supply Voltage. Pins 1 and 4 are tied internally together. The specified range of operation is 4.5V to 5.5V, but lower supply voltages (down to approximately 4V) is possible although the LT1999 is not tested or (See Datasheet)", 5 GND (power) "Ground Pin.", 6 REF (in) "Reference Pin Input. The REF pin sets the output common mode level and is set halfway between V+ and GND using a divider made of two 160k resistors. The default open circuit potential of the REF pin is mid-supply. It can be (See Datasheet)", 7 OUT (out) "Voltage Output. VOUT = AV•(VSENSE +/- VOSI), where AV is the gain, and VOSI is the input referred offset voltage. The output amplifier has a low impedance output and is designed to drive up to 200pF capacitive loads directly.(See Datasheet)", 8 ~{SHDN} (in) "Shutdown Pin. When pulled to within 0.5V of GND (Pin 5), will place the LT1999 into low power shutdown. If the pin is left floating, an internal 2uA pullup current source will place the LT1999 into the active (amplifying) (See Datasheet)"